# Altium schematic symbol library TCRT5000.SchLib: 1 symbol
Pins are listed as number, name and electrical type; pins without a type are passive.

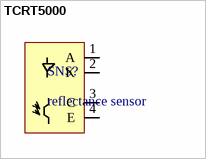
[diagram p0: symbol TCRT5000]

## TCRT5000
designator SNS?, comment reflectance sensor
footprint TCRT5000-sideMount
pins: 1 A, 2 K, 3 C, 4 E